# Altium footprint library MAR_modems_board_A0_wf_8.PcbLib: 33 footprints (part 1 of 3)
Each footprint in its own frame and in the unit in brackets; x right, y up, seen from the top. Pads: shape width x height; smd on the part's side, far side on the other; paste and mask are expansions set on the pad; w line width, h text height; cw(c..) or ccw(c..) is an arc to the next point about the centre after c.
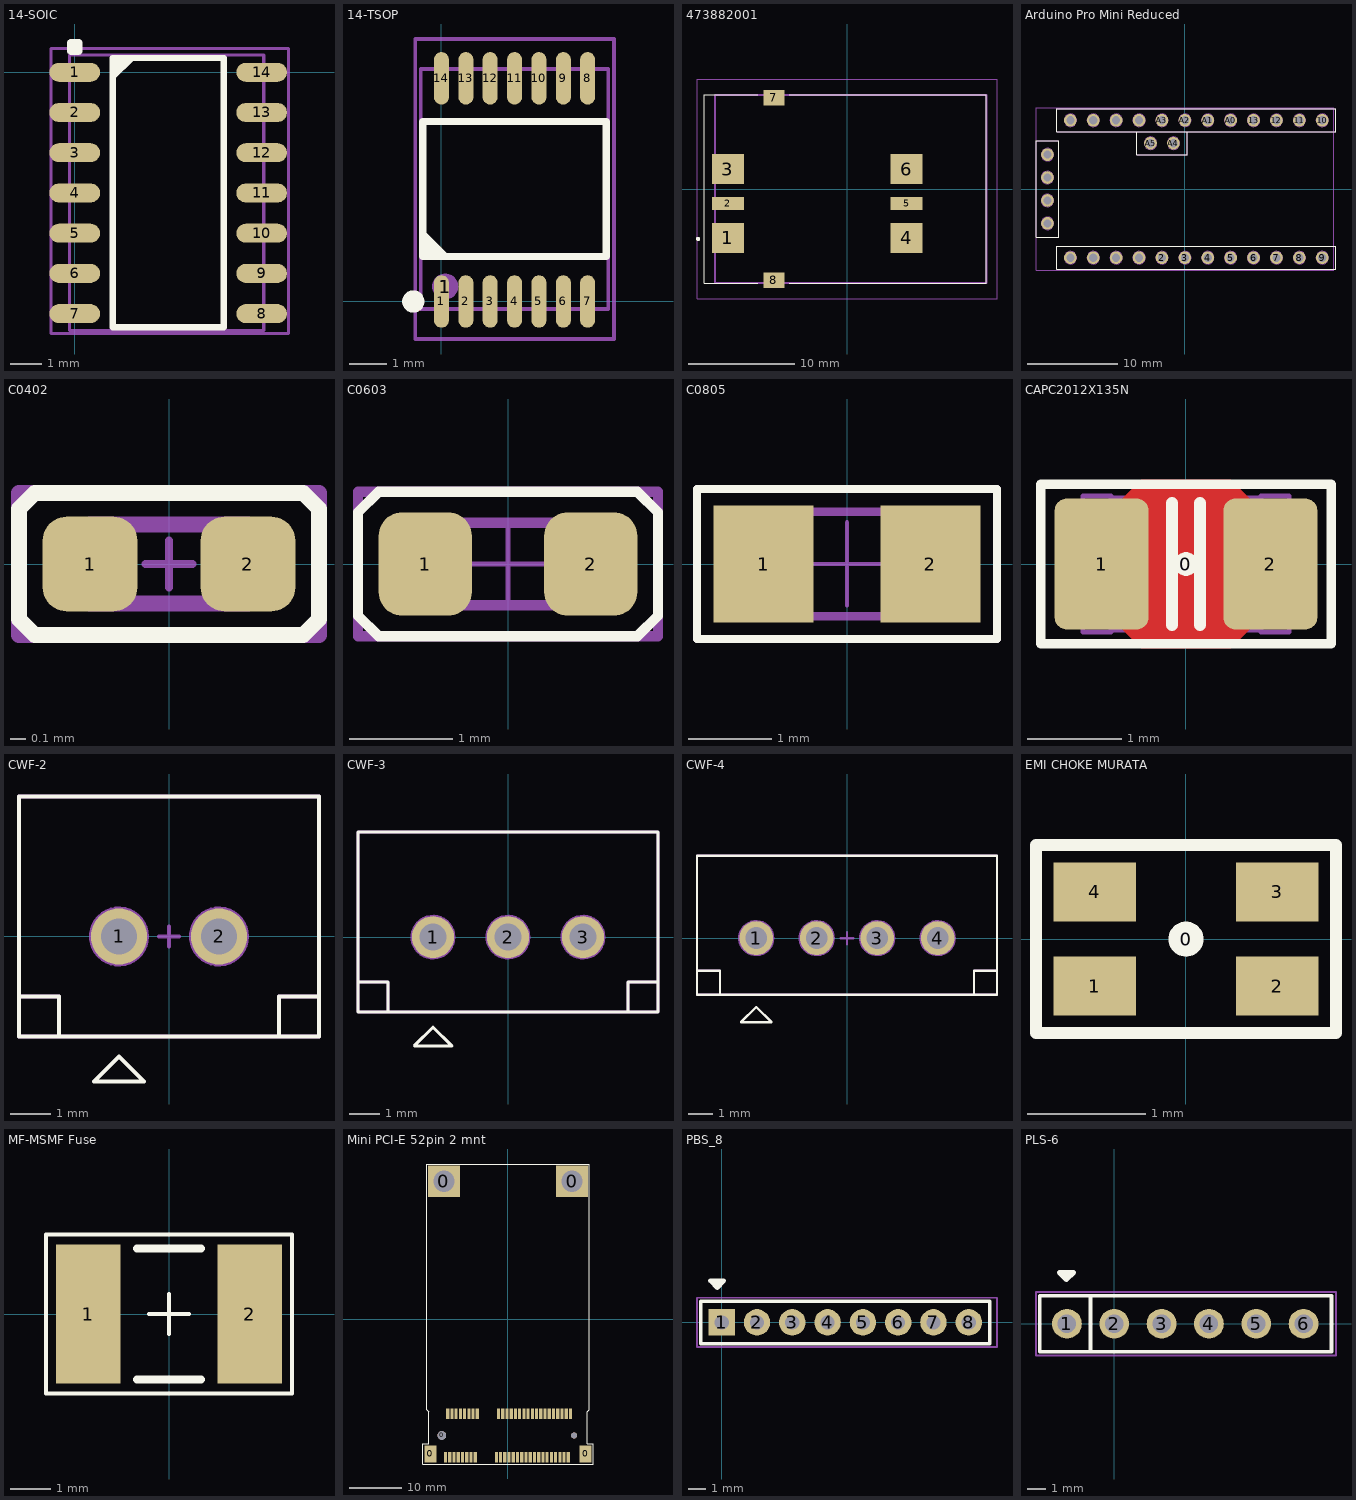
[diagram p0: the footprints below, top view; thin cyan lines are the x and y axes]

## 14-SOIC [mm] "pitch 1.27 mm"
pads (16):
  rrect100% 1.6x0.6 smd: 1(0,0) 2(0,-1.27) 3(0,-2.54) 4(0,-3.81) 5(0,-5.08) 6(0,-6.35) 7(0,-7.62) 8(5.9,-7.62) 9(5.9,-6.35) 10(5.9,-5.08) 11(5.9,-3.81) 12(5.9,-2.54) 13(5.9,-1.27) 14(5.9,0)
  rrect50% 0.5x0.5 on Top Overlay: ""(0,0.8)
  round 0.5 on Mech1: ""(0.5,0)
Top Overlay:
  region: 1.2,0.45 1.2,-0.27 1.92,0.45
  lines w0.2: 1.2,-8.05 1.2,0.45 4.7,0.45 4.7,-8.05 1.2,-8.05
Mechanical 1:
  lines w0.1: -0.168,-8.15 5.969,-8.15 5.969,0.55 -0.168,0.55 -0.168,-8.15
Mechanical 15:
  lines w0.1: -0.75,-8.25 6.75,-8.25 6.75,0.5 6.75,0.75 -0.75,0.75 -0.75,-8.25
3D body "User Library-so14-2.STEP": height 1.78, standoff 0.01, extent -0.118,-8.15 6.019,0.55

## 14-TSOP [mm]
height 5
pads (17):
  rrect100% 0.4x1.4 smd: 1(0,0) 2(0.65,0) 3(1.3,0) 4(1.95,0) 5(2.6,0) 6(3.25,0) 7(3.9,0) 8(3.9,5.95) 9(3.25,5.95) 10(2.6,5.95) 11(1.95,5.95) 12(1.3,5.95) 13(0.65,5.95) 14(0,5.95)
  round 0.7 on Mech1: 1(0.1,0.4)
  round 0.7 on Mech6: 1(0.1,0.4)
  round 0.6 on Top Overlay: ""(-0.75,0)
Top Overlay:
  region: -0.5,1.2 0.22,1.2 -0.5,1.92
  lines w0.2: -0.5,1.2 4.4,1.2 4.4,4.8 -0.5,4.8 -0.5,1.2
Mechanical 1:
  lines w0.1: -0.55,6.2 -0.55,6.2 ; -0.55,6.2 4.45,6.2 4.45,-0.2 -0.55,-0.2 -0.55,6.2
Top Assembly:
  lines w0.1: -0.55,6.2 -0.55,6.2 ; -0.55,6.2 4.45,6.2 4.45,-0.2 -0.55,-0.2 -0.55,6.2
Mechanical 15:
  lines w0.1: -0.7,-1 -0.7,7 4.6,7 4.6,2.4 4.6,-1 -0.7,-1
3D body "SW3dPS-TSSOP14-1.STEP": height 1.1, standoff 0, extent -0.55,-0.2 4.45,6.2

## 473882001 [mm]
pads (8):
  rect 3x2.8 smd: 1(-11.2,-4.6) 3(-11.2,1.88) 4(5.6,-4.6) 6(5.6,1.88)
  rect 3x1.2 smd: 2(-11.2,-1.36) 5(5.6,-1.36)
  rect 1.95x1.45 smd: 7(-6.87,8.58) 8(-6.87,-8.58)
Top Overlay:
  lines w0.1: -8.41,-8.85 -13.41,-8.85 -13.41,8.85 -8.41,8.85 ; -5.41,-8.85 13.11,-8.85 13.11,8.85 -5.41,8.85
  lines w0.2: -14.01,-4.8 cw(c-14.01,-4.7) -14.01,-4.6 cw(c-14.01,-4.7) -14.01,-4.8
Top Assembly:
  lines w0.2: -12.41,-8.85 -12.41,8.85 13.11,8.85 13.11,-8.85 -12.41,-8.85
Mechanical 15:
  lines w0.1: -14.11,-10.305 -14.11,10.305 14.11,10.305 14.11,-10.305 -14.11,-10.305
3D body "47388-2001.stp": height 1.9, standoff -0.1, extent -12,-9.05 13.52,9.05

## Arduino Pro Mini Reduced [mm] "Arduino Pro Mini 15Mhz 5v, Reduced version"
height 13
pads (30):
  round 1.4 hole 0.9: 2(-2.54,-7.62) 3(0,-7.62) 4(2.54,-7.62) 5(5.08,-7.62) 6(7.62,-7.62) 7(10.16,-7.62) 8(12.7,-7.62) 9(15.24,-7.62) 10(15.24,7.62) 11(12.7,7.62) 12(10.16,7.62) 13(7.62,7.62) A0(5.08,7.62) A1(2.54,7.62) A2(0,7.62) A3(-2.54,7.62) A4(-1.27,5.08) A5(-3.81,5.08) Minus(-15.24,-3.81) Minus(-10.16,7.62) Minus(-5.08,-7.62) RAW(-12.7,7.62) RST(-7.62,-7.62) RST(-7.62,7.62) RXI(-15.24,1.27) RXI(-10.16,-7.62) TXO(-15.24,3.81) TXO(-12.7,-7.62) VCC(-15.24,-1.27) VCC(-5.08,7.62)
Top Overlay:
  lines w0.1: -5.334,6.35 -5.334,3.81 0.254,3.81 0.254,6.35 ; -16.51,-5.334 -13.97,-5.334 -13.97,5.334 -16.51,5.334 -16.51,-5.334 ; -14.224,-8.89 -14.224,-6.35 16.764,-6.35 16.764,-8.89 -14.224,-8.89 ; -14.224,6.35 -14.224,8.89 16.764,8.89 16.764,6.35 -14.224,6.35
Mechanical 7:
  lines w0.1: -16.5,-9 16.5,-9 16.5,9 -16.5,9 -16.5,-9
Mechanical 13:
  circle w0.1: c-1.27,5.08 r0.7
  circle w0.1: c-3.81,5.08 r0.7
  circle w0.1: c15.24,7.62 r0.7
  circle w0.1: c12.7,7.62 r0.7
  circle w0.1: c10.16,7.62 r0.7
  circle w0.1: c7.62,7.62 r0.7
  circle w0.1: c5.08,7.62 r0.7
  circle w0.1: c2.54,7.62 r0.7
  circle w0.1: c0,7.62 r0.7
  circle w0.1: c-2.54,7.62 r0.7
  circle w0.1: c-5.08,7.62 r0.7
  circle w0.1: c-7.62,7.62 r0.7
  circle w0.1: c-10.16,7.62 r0.7
  circle w0.1: c-12.7,7.62 r0.7
  circle w0.1: c-15.24,3.81 r0.7
  circle w0.1: c-15.24,1.27 r0.7
  circle w0.1: c-15.24,-1.27 r0.7
  circle w0.1: c-15.24,-3.81 r0.7
  circle w0.1: c15.24,-7.62 r0.7
  circle w0.1: c12.7,-7.62 r0.7
  circle w0.1: c10.16,-7.62 r0.7
  circle w0.1: c7.62,-7.62 r0.7
  circle w0.1: c5.08,-7.62 r0.7
  circle w0.1: c2.54,-7.62 r0.7
  circle w0.1: c0,-7.62 r0.7
  circle w0.1: c-2.54,-7.62 r0.7
  circle w0.1: c-5.08,-7.62 r0.7
  circle w0.1: c-7.62,-7.62 r0.7
  circle w0.1: c-10.16,-7.62 r0.7
  circle w0.1: c-12.7,-7.62 r0.7
  lines w0.1: -5.33,6.35 -5.33,3.81 0.25,3.81 0.25,6.35 ; -16.51,-5.33 -13.97,-5.33 -13.97,5.33 -16.51,5.33 -16.51,-5.33 ; -14.22,-8.89 16.76,-8.89 16.76,-6.35 -14.22,-6.35 -14.22,-8.89 ; -14.22,6.35 -14.22,8.89 16.76,8.89 16.76,6.35 -14.22,6.35
  text "J1_'.Designator'" at -1.778,9.398 h1.5
  text "J2_'.Designator'" at -1.778,-10.16 h1.5
  text "J3_'.Designator'" at -17.018,-1.778 h1.5
  text "J4_'.Designator'" at -4.318,2.54 h1.5
Mechanical 15:
  lines w0.1: 2.286,6.35 0.254,6.35 0.254,3.81 -5.334,3.81 -5.334,6.35 -14.224,6.35 -14.224,8.89 16.764,8.89 16.764,6.35 7.874,6.35 ; -16.51,-5.334 -16.51,5.334 -13.97,5.334 -13.97,-5.334 -16.51,-5.334 ; -14.224,-8.89 16.764,-8.89 16.764,-6.35 -14.224,-6.35 -14.224,-8.89
3D body "PBS-4.STEP": height 8.4, standoff -3.2, extent -16.51,-5.08 -13.97,5.08
3D body "PBS-2.STEP": height 8.4, standoff -3.2, extent -5.08,3.81 0,6.35
3D body "PBS-12.STEP": height 8.4, standoff -3.2, extent -13.97,6.35 16.51,8.89
3D body "PBS-12.STEP": height 8.4, standoff -3.2, extent -13.97,-8.89 16.51,-6.35

## C0402 [mm] "Chip ceramic capacitor 0402"
height 0.6
pads (2):
  rrect50% 0.6x0.6 smd paste-0.025 mask+0.05: 1(-0.5,0) 2(0.5,0)
Top Overlay:
  lines w0.1: -0.95,-0.35 -0.95,0.35 -0.85,0.45 0.85,0.45 0.95,0.35 0.95,-0.35 0.85,-0.45 -0.85,-0.45 -0.95,-0.35
Top Assembly:
  lines w0.1: -0.5,-0.25 -0.5,0.25 0.5,0.25 0.5,-0.25 -0.5,-0.25
  text "'.Designator'" at 0.8,-0.35 h1
Mechanical 15:
  lines w0.05: -0.15,0 0.15,0 ; 0,-0.15 0,0.15
  lines w0.1: -0.95,-0.45 -0.95,0.45 0.95,0.45 0.95,-0.45 -0.95,-0.45
3D body "C0402.step": height 0.6, standoff 0, extent -0.5,-0.25 0.5,0.25

## C0603 [mm] "Chip ceramic capacitor 0603"
height 0.85
pads (2):
  rrect50% 0.9x1 smd paste-0.025 mask+0.05: 1(-0.8,0) 2(0.8,0)
Top Overlay:
  lines w0.1: -1.45,0.5 -1.45,-0.5 -1.25,-0.7 1.25,-0.7 1.45,-0.5 1.45,0.5 1.25,0.7 -1.25,0.7 -1.45,0.5 ; -1.45,0.5 -1.45,0.5
Top Assembly:
  lines w0.1: -0.8,-0.4 -0.8,0.4 0.8,0.4 0.8,-0.4 -0.8,-0.4
  text "'.Designator'" at 1.3,-0.35 h1.1
Mechanical 15:
  lines w0.05: -0.4,0 0.4,0 ; 0,-0.4 0,0.4
  lines w0.1: -1.45,-0.7 -1.45,0.7 1.45,0.7 1.45,-0.7 -1.45,-0.7
3D body "C0603.step": height 0.85, standoff 0, extent -0.8,-0.4 0.8,0.4

## C0805 [mm] "Chip ceramic capacitor 0805"
height 1.1
pads (2):
  rect 1.2x1.4 smd paste-0.05 mask+0.05: 1(-1,0) 2(1,0)
Top Overlay:
  lines w0.1: -1.8,-0.9 -1.8,0.9 1.8,0.9 1.8,-0.9 -1.8,-0.9
Top Assembly:
  lines w0.1: -1,-0.625 1,-0.625 1,0.625 -1,0.625 -1,-0.625
  text "'.Designator'" at 1.5,-0.25 h1.2
Mechanical 15:
  lines w0.05: -0.5,0 0.5,0 ; 0,-0.5 0,0.5
  lines w0.1: -1.8,-0.9 1.8,-0.9 1.8,0.9 -1.8,0.9 -1.8,-0.9
3D body "C0805.step": height 1.1, standoff 0, extent -1,-0.625 1,0.625

## CAPC2012X135N [mm] "Chip Capacitor, Body 2.0x1.2mm, EIA 0805, IPC Medium Density"
height 1.35
pads (3):
  round 0.254 on Top Overlay: 0(0,0)
  rrect25% 1x1.4 smd: 1(-0.9,0) 2(0.9,0)
Top Layer:
  pour cut-out: -0.675,0.7 -0.475,0.9 0.475,0.9 0.675,0.7 0.675,-0.7 0.475,-0.9 -0.475,-0.9 -0.675,-0.7
Top Overlay:
  lines w0.1: -1.55,-0.85 1.55,-0.85 1.55,0.85 -1.55,0.85 -1.55,-0.85
  lines w0.127: -0.15,-0.651 -0.15,0.651 ; 0.15,-0.651 0.15,0.651
Mechanical 13:
  lines w0.05: -0.8,-0.705 0.8,-0.705 ; -0.8,0.705 0.8,0.705 ; -1.1,-0.725 -1.1,0.725 -0.8,0.725 -0.8,-0.725 -1.1,-0.725 ; 0.8,-0.725 1.1,-0.725 1.1,0.725 0.8,0.725 0.8,-0.725
Mechanical 15:
  lines w0.1: -0.275,0 0.275,0 ; 0,-0.275 0,0.275
3D body "CAP_0805.STEP": height 1.34, standoff -0.01, extent -1.1,-0.725 1.1,0.725

## CWF-2 [mm] "On-board power connector CWF-2"
height 7.7
pads (2):
  round 1.4 hole 0.9 mask+0.05: 1(-1.25,0) 2(1.25,0)
Top Overlay:
  lines w0.1: -3.75,-1.5 -2.75,-1.5 -2.75,-2.5 ; 2.75,-2.5 2.75,-1.5 3.75,-1.5 ; -3.75,-2.5 3.75,-2.5 3.75,3.5 -3.75,3.5 -3.75,-2.5 ; -1.875,-3.625 -0.625,-3.625 -1.25,-3 -1.875,-3.625
Top Assembly:
  circle w0.1: c1.25,0 r0.7
  circle w0.1: c-1.25,0 r0.7
  lines w0.1: -3.75,-1.5 -2.75,-1.5 -2.75,-2.5 ; 2.75,-2.5 2.75,-1.5 3.75,-1.5 ; -3.75,-2.5 -3.75,3.5 3.75,3.5 3.75,-2.5 -3.75,-2.5
  text "1" at -1.45,-1.75 h1
  text "'.Designator'" at -0.725,1.275 h1.5
Mechanical 15:
  lines w0.1: -0.25,0 0.25,0 ; 0,-0.25 0,0.25 ; -3.75,-2.5 -3.75,3.5 3.75,3.5 3.75,-2.5 -3.75,-2.5
3D body "CWF-2-onboard.stp": height 7, standoff -3, extent -3.7,-2.5 3.8,3.5

## CWF-3 [mm] "On-board power connector CWF-3"
height 7.7
pads (3):
  round 1.4 hole 0.9 mask+0.05: 1(-2.5,0) 2(0,0) 3(2.5,0)
Top Overlay:
  lines w0.1: -5,-1.5 -4,-1.5 -4,-2.5 ; 4,-2.5 4,-1.5 5,-1.5 ; -5,-2.5 -5,3.5 5,3.5 5,-2.5 -5,-2.5 ; -3.125,-3.625 -2.5,-3 -1.875,-3.625 -3.125,-3.625
Top Assembly:
  circle w0.1: c2.5,0 r0.7
  circle w0.1: c-2.5,0 r0.7
  circle w0.1: c0,0 r0.7
  lines w0.1: -5,-1.5 -4,-1.5 -4,-2.5 ; 4,-2.5 4,-1.5 5,-1.5 ; -5,-2.5 5,-2.5 5,3.5 -5,3.5 -5,-2.5
  text "'.Designator'" at -1,1.3 h1.5
  text "1" at -2.7,-1.75 h1
Mechanical 15:
  lines w0.1: -0.25,0 0.25,0 ; 0,-0.25 0,0.25 ; -5,-2.5 5,-2.5 5,3.5 -5,3.5 -5,-2.5
3D body "CWF-3.STEP": height 7, standoff -3.5, extent -5,-2.2 5,3.55

## CWF-4 [mm] "On-board power connector, 4-pin, male, through-hole, pitch 2.5 mm"
height 7.7
pads (4):
  round 1.4 hole 0.9 mask+0.05: 1(-3.75,0) 2(-1.25,0) 3(1.25,0) 4(3.75,0)
Top Overlay:
  lines w0.1: -6.2,-1.35 -5.25,-1.35 -5.25,-2.35 ; 5.25,-2.35 5.25,-1.35 6.2,-1.35 ; -6.2,-2.35 -6.2,3.4 6.2,3.4 6.2,-2.35 -6.2,-2.35 ; -4.375,-3.475 -3.75,-2.85 -3.125,-3.475 -4.375,-3.475
Top Assembly:
  circle w0.1: c-3.75,0 r0.7
  circle w0.1: c-1.25,0 r0.7
  circle w0.1: c1.25,0 r0.7
  circle w0.1: c3.75,0 r0.7
  lines w0.1: -6.2,-1.35 -5.25,-1.35 -5.25,-2.35 ; 5.25,-2.35 5.25,-1.35 6.2,-1.35 ; -6.2,-2.35 6.2,-2.35 6.2,3.4 -6.2,3.4 -6.2,-2.35
  text "'.Designator'" at -0.7,1.1 h1.5
  text "1" at -3.95,-1.6 h1
Mechanical 15:
  lines w0.1: -0.25,0 0.25,0 ; 0,-0.25 0,0.25 ; -6.2,-2.35 6.2,-2.35 6.2,1.4 6.2,3.146 6.2,3.4 -6.2,3.4 -6.2,-1.889 -6.2,-2.35
3D body "CWF-4.STEP": height 7, standoff -3.5, extent -6.25,-2.2 6.15,3.55

## EMI CHOKE MURATA [mm] "Choke Murata DLW21HN900SQ2L"
height 1
pads (5):
  round 0.3 on Top Overlay: 0(0,-0.001)
  rect 0.7x0.5 smd: 1(-0.775,-0.4) 2(0.775,-0.4) 3(0.775,0.4) 4(-0.775,0.4)
Top Overlay:
  lines w0.1: -1.275,-0.8 1.275,-0.8 1.275,0.8 -1.275,0.8 -1.275,-0.8

## MF-MSMF Fuse [mm] "Chip Resistor, 2-Leads, Body 4,5x3,2mm, IPC Medium Density"
height 0.85
pads (2):
  rect 1.6x3.45 smd: 1(-2,0) 2(2,0)
Top Overlay:
  lines w0.1: -0.5,0 0.5,0 ; 0,-0.5 0,0.5 ; -3.05,-1.975 -3.05,1.975 3.05,1.975 3.05,-1.975 -3.05,-1.975
  lines w0.2: -0.8,-1.625 0.8,-1.625 ; -0.8,1.625 0.8,1.625
3D body: height 0.85, standoff 0, extent -2.365,-1.705 2.365,1.705

## Mini PCI-E 52pin 2 mnt [mm] "Mini PCI-E 52pin TE 1775838"
height 5.6
pads (58):
  rect 2.3x3.2 smd: 0(-14.65,-25.475) 0(14.65,-25.475)
  round 1.65 hole 1.65 unplated: 0(-12.5,-21.975)
  rect 6x6 hole 4: 0(-12.1,26.075) 0(12.1,26.075)
  round 1.15 hole 1.15 unplated: 0(12.5,-21.975)
  rect 0.6x2 smd: 1(-11.8,-26.075) 3(-11,-26.075) 3v3(-11.4,-17.875) 3v3(0.6,-17.875) 3v3(6.6,-26.075) 3v3(7.4,-26.075) 3v3(11.8,-17.875) 5(-10.2,-26.075) 6(-9.8,-17.875) 7(-9.4,-26.075) 8(-9,-17.875) 10(-8.2,-17.875) 11(-7.8,-26.075) 12(-7.4,-17.875) 13(-7,-26.075) 14(-6.6,-17.875) 16(-5.8,-17.875) 17(-2.2,-26.075) 19(-1.4,-26.075) 20(-1,-17.875) 22(-0.2,-17.875) 23(0.2,-26.075) 25(1,-26.075) 28(2.2,-17.875) 30(3,-17.875) 31(3.4,-26.075) 32(3.8,-17.875) 33(4.2,-26.075) 36(5.4,-17.875) 38(6.2,-17.875) 42(7.8,-17.875) 44(8.6,-17.875) 45(9,-26.075) 46(9.4,-17.875) 47(9.8,-26.075) 48(10.2,-17.875) 49(10.6,-26.075) 51(11.4,-26.075) GND(-10.6,-17.875) GND(-8.6,-26.075) GND(-6.2,-26.075) GND(-1.8,-17.875) GND(-0.6,-26.075) GND(1.4,-17.875) GND(1.8,-26.075) GND(2.6,-26.075) GND(4.6,-17.875) GND(5,-26.075) GND(5.8,-26.075) GND(7,-17.875) GND(8.2,-26.075) GND(11,-17.875)
Top Overlay:
  lines w0.1: 15.3,29.325 -15.325,29.325 -15.325,-17.085 -14.95,-17.46 -14.95,-23.575 -16.1,-23.575 -16.1,-27.375 16.1,-27.375 16.1,-23.575 14.95,-23.575 14.95,-17.46 15.325,-17.085 15.325,29.325
3D body "Mini-PCI-E-52pin-CD_1775838_H5.6-Colored.stp": height 5.58, standoff -0.67, extent -14.95,-26.54 14.95,-17.46

## PBS_8 [mm] "2X11-2.0"
height 6
pads (8):
  rect 1.5x1.5 hole 0.8: 1(0,0)
  round 1.5 hole 0.8: 2(2,0) 3(4,0) 4(6,0) 5(8,0) 6(10,0) 7(12,0) 8(14,0)
Top Overlay:
  lines w0.2: -1.2,-1.2 15.2,-1.2 15.2,1.2 -1.2,1.2 -1.2,-1.2
  lines w0.254: -0.256,2.349 -0.256,1.965 ; -0.256,1.965 0.129,2.349 -0.64,2.349 -0.256,1.965
Mechanical 15:
  lines w0.1: -1.4,-1.4 15.6,-1.4 15.6,1.4 -1.4,1.4 -1.4,-1.4
3D body "User Library-PBS2-8.STEP": height 4.3, standoff -3.15, extent -1,-1 15,1

## PLS-6 [mm]
height 8.6
pads (6):
  round 1.6 hole 1 mask+0.1: 1(-2.54,0) 2(0,0) 3(2.54,0) 4(5.08,0) 5(7.62,0) 6(10.16,0)
Top Overlay:
  lines w0.2: -1.275,-1.5 -1.275,1.5 ; 11.658,-1.5 -4,-1.5 -4,1.5 11.658,1.5 ; 11.658,-1.495 11.658,1.505
  lines w0.254: -2.566,2.75 -2.566,2.366 ; -2.566,2.366 -2.181,2.75 -2.95,2.75 -2.566,2.366
Mechanical 15:
  lines w0.1: -4.2,-1.7 -4.2,1.7 11.9,1.7 11.9,-1.7 -4.2,-1.7
3D body "User Library-PLS-3.STEP": height 8.54, standoff -3, extent 3.81,-1.27 11.43,1.27
3D body "User Library-PLS-3.STEP": height 8.54, standoff -3, extent -3.81,-1.27 3.81,1.27